# Altium footprint library DB9.PcbLib: 1 footprints
Each footprint in its own frame and in the unit in brackets; x right, y up, seen from the top. Pads: shape width x height; smd on the part's side, far side on the other; paste and mask are expansions set on the pad; w line width, h text height; cw(c..) or ccw(c..) is an arc to the next point about the centre after c.
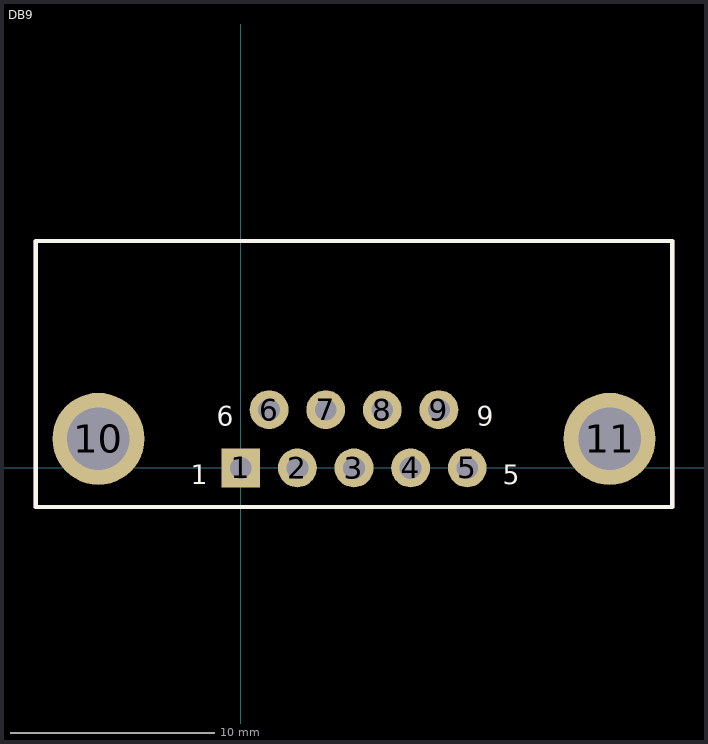
[diagram p0: the footprint, top view; thin cyan lines are the x and y axes]

## DB9 [mil]
pads (11):
  rect 74.8x74.8 / inner round 60 / far side rect 74.8x74.8 hole 42: 1(0,0)
  round 74.8 / inner round 60 / far side round 74.8 hole 42: 2(109,0) 3(218,0) 4(327,0) 5(436,0) 6(54.5,112) 7(163.5,112) 8(272.5,112) 9(381.5,112)
  round 177.17 / inner round 60 / far side round 177.17 hole 120: 10(-274,56) 11(710,56)
Top Overlay:
  lines w8: -394.5,-75.5 -394.5,437 830.5,437 830.5,-75.5 -394.5,-75.5
  text "9" at 454.12,81.38 h37.5
  text "6" at -45.88,81.38 h37.5
  text "5" at 504.12,-31.13 h37.5
  text "1" at -95.88,-31.13 h37.5
Mechanical 1:
  lines w8: -394.5,-75.5 -394.5,437 830.5,437 830.5,-75.5 -394.5,-75.5
  text "9" at 454.12,81.38 h37.5
  text "6" at -45.88,81.38 h37.5
  text "5" at 504.12,-31.13 h37.5
  text "1" at -95.88,-31.13 h37.5
3D body: height 492.13, standoff -149.61, extent -390,-97.95 822.99,657.95